# Altium footprint library Chip1206.PcbLib: 1 footprints
Each footprint in its own frame and in the unit in brackets; x right, y up, seen from the top. Pads: shape width x height; smd on the part's side, far side on the other; paste and mask are expansions set on the pad; w line width, h text height; cw(c..) or ccw(c..) is an arc to the next point about the centre after c.
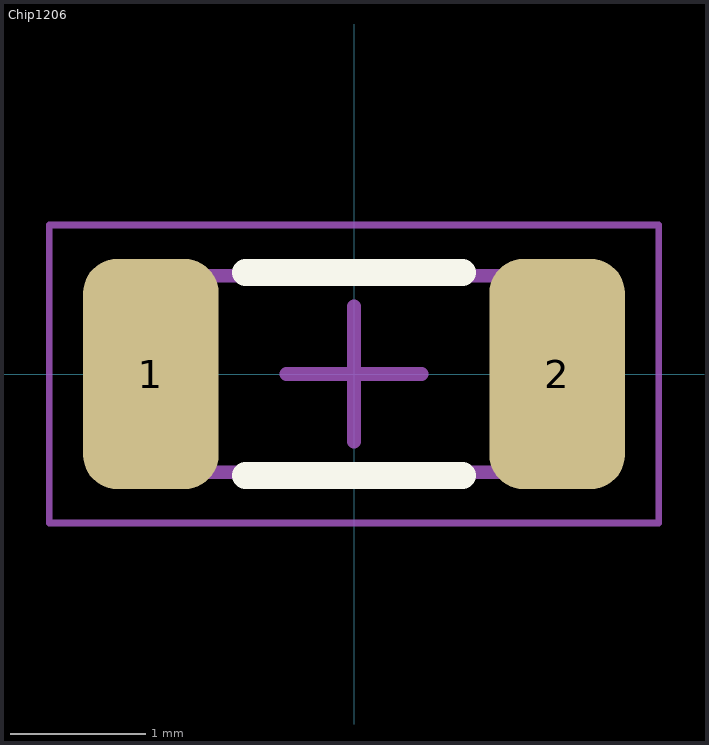
[diagram p0: the footprint, top view; thin cyan lines are the x and y axes]

## Chip1206 [mm] "Chip Resistor, 2-Leads, Body 3.15x1.60mm, IPC Medium Density"
height 0.6
pads (2):
  rrect50% 1x1.7 smd: 1(-1.5,0) 2(1.5,0)
Top Overlay:
  lines w0.2: -0.8,-0.75 0.8,-0.75 ; -0.8,0.75 0.8,0.75
Mechanical 13:
  lines w0.1: -1.5,-0.725 -1.5,0.725 1.5,0.725 1.5,-0.725 -1.5,-0.725
Mechanical 15:
  lines w0.05: -2.25,-1.1 -2.25,1.1 2.25,1.1 2.25,-1.1 -2.25,-1.1
  lines w0.1: -0.5,0 0.5,0 ; 0,-0.5 0,0.5
Mechanical 17:
  text ".Designator" at -2,-0.75 h1
Mechanical 19:
  text ".Comment" at -2,-0.75 h1
3D body: height 0.6, standoff 0, extent -1.05,-0.725 1.05,0.725
3D body: height 0.6, standoff 0, extent -1.5,-0.725 -1.05,0.725
3D body: height 0.6, standoff 0, extent 1.05,-0.725 1.5,0.725